# Altium footprint library TEFT4300.PcbLib: 1 footprints
Each footprint in its own frame and in the unit in brackets; x right, y up, seen from the top. Pads: shape width x height; smd on the part's side, far side on the other; paste and mask are expansions set on the pad; w line width, h text height; cw(c..) or ccw(c..) is an arc to the next point about the centre after c.
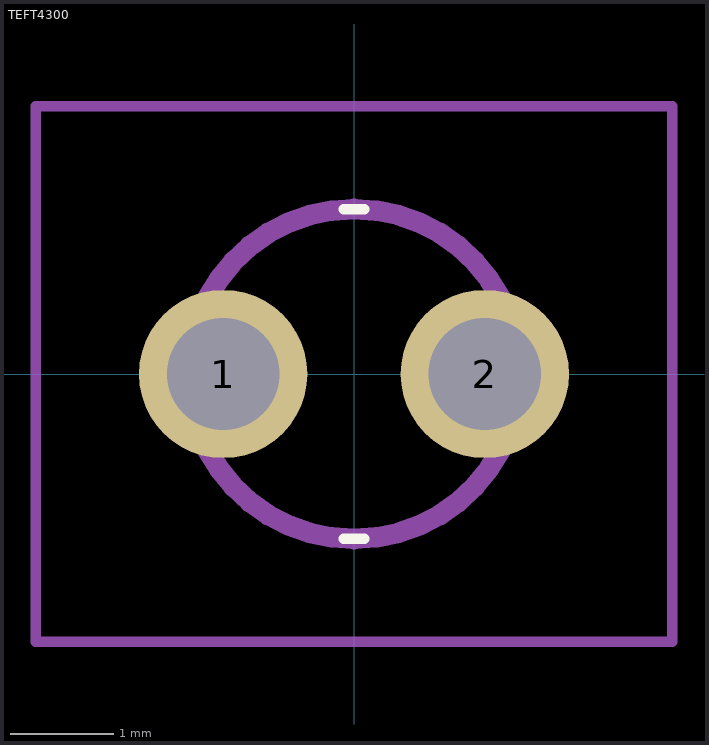
[diagram p0: the footprint, top view; thin cyan lines are the x and y axes]

## TEFT4300 [mm]
pads (2):
  round 1.635 hole 1.09: 1(-1.27,0) 2(1.27,0)
Top Overlay:
  lines w0.1: -0.1,-1.6 0.1,-1.6 ; -0.1,1.6 0.1,1.6
Mechanical 15:
  lines w0.2: 0.001,-1.601 cw(c0.001,0) 0.001,1.601 cw(c0.001,0) 0.001,-1.601 ; 0,-1.6 0,-1.6 ; 0,1.6 0,1.6
Mechanical 20:
  lines w0.1: -3.088,-2.6 3.088,-2.6 3.088,2.6 -3.088,2.6 -3.088,-2.6